# Altium integrated library TSAL6100.IntLib: 1 symbol
Pins are listed as number, name and electrical type; pins without a type are passive.

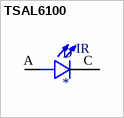
[diagram p0: symbol TSAL6100]

## TSAL6100
designator D
Infrared Emitter 940nm 170mW/sr Circular Top Mount 2-Pin T-1 3/4 Bulk; MF: Vishay Semiconductor; MP: TSAL6100; SnapEDA_Link: https://www.snapeda.com/parts/TSAL6100/Vishay%20Semiconductor%20Opto%20Division/view-part/3623403/?ref=snap; Package: Radial Vishay; Price: None; Availability: Unavailable; Value: *
footprint LEDRD254W55D595H900
pins: A, C
text: IR